# Altium footprint library PcbLib.PcbLib: 51 footprints (part 3 of 4)
Each footprint in its own frame and in the unit in brackets; x right, y up, seen from the top. Pads: shape width x height; smd on the part's side, far side on the other; paste and mask are expansions set on the pad; w line width, h text height; cw(c..) or ccw(c..) is an arc to the next point about the centre after c.
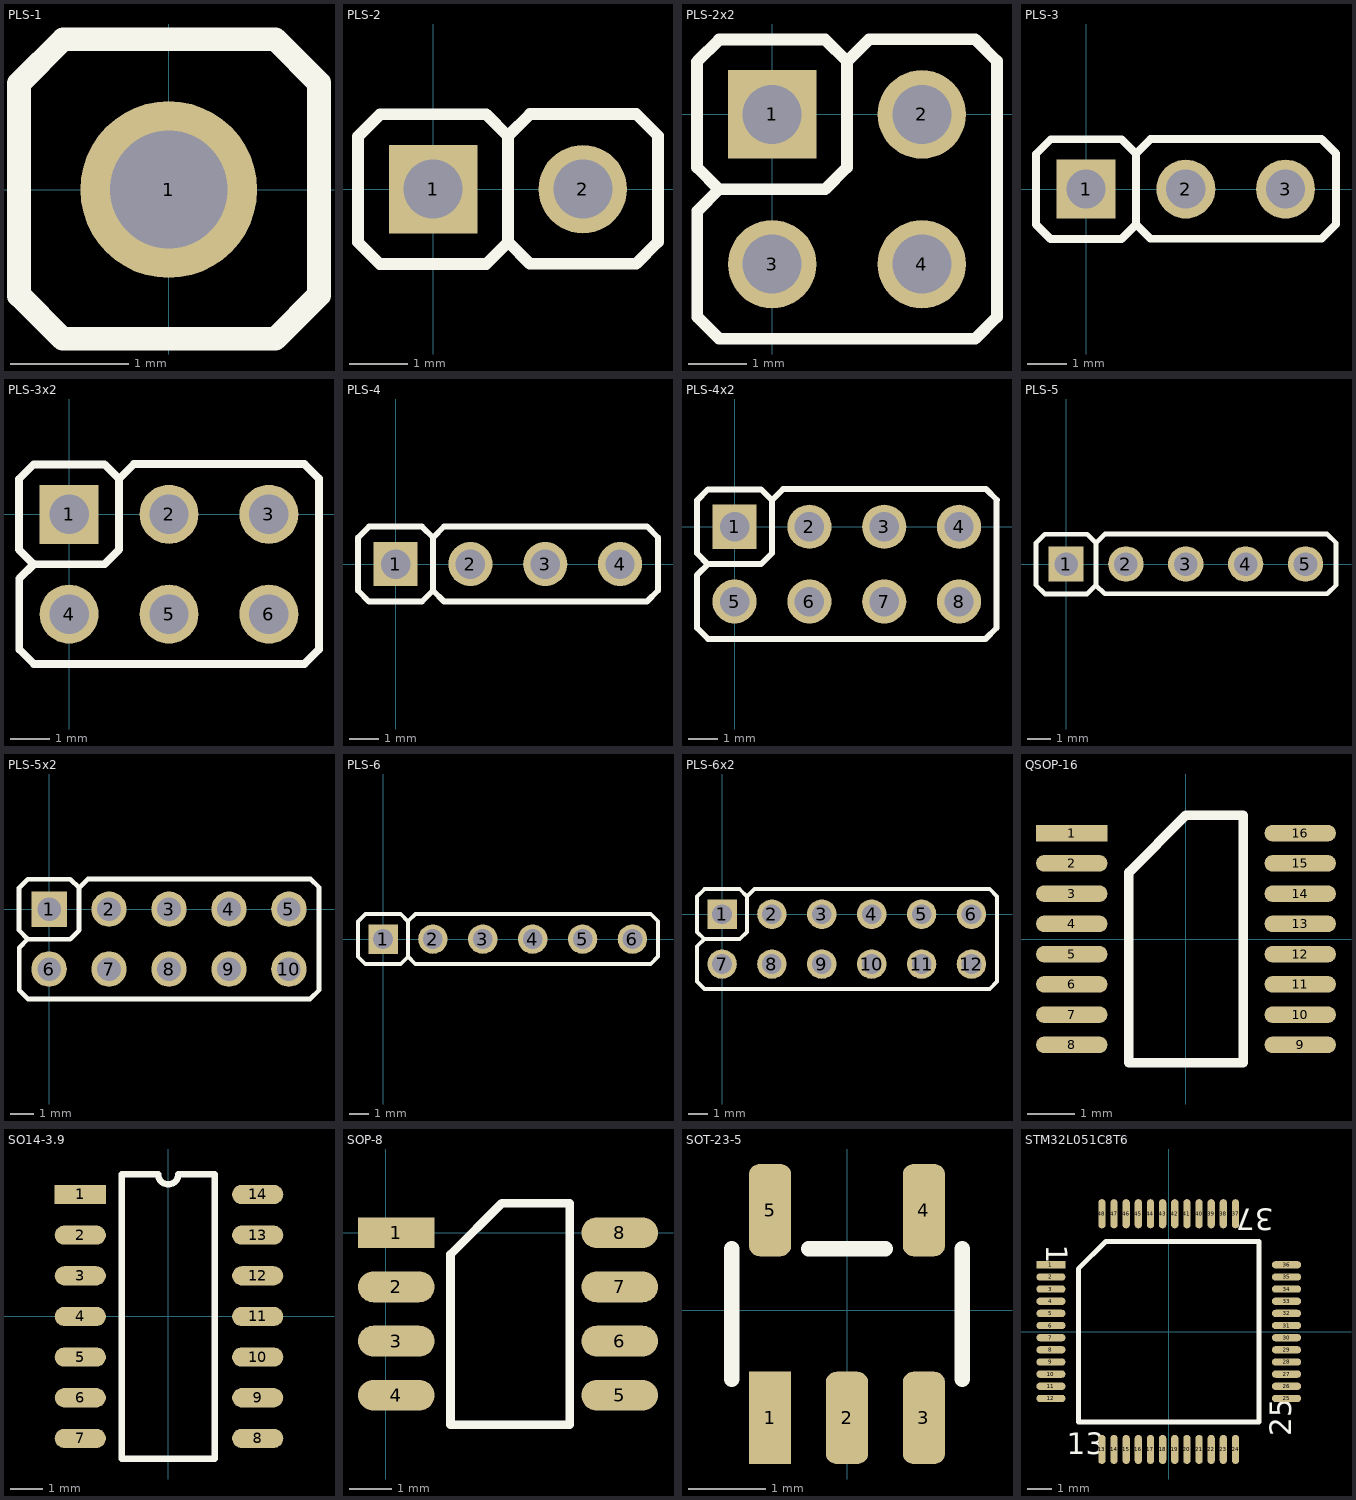
[diagram p2: the footprints below, top view; thin cyan lines are the x and y axes]

## PLS-1 [mm]
pads (1):
  round 1.5 hole 1: 1(0,0)
Top Overlay:
  lines w0.2: -1.27,-0.9 -1.27,0.9 ; -1.27,-0.895 -0.9,-1.265 0.905,-1.265 1.275,-0.895 1.275,0.905 0.905,1.275 -0.895,1.275 -1.265,0.905

## PLS-2 [mm]
pads (2):
  rect 1.5x1.5 hole 1: 1(0,0)
  round 1.5 hole 1: 2(2.54,0)
Top Overlay:
  lines w0.2: -1.275,0.895 -1.275,-0.9 -0.905,-1.27 0.9,-1.27 1.27,-0.9 1.27,0.9 ; -1.27,0.9 -0.9,1.27 0.9,1.27 ; 1.27,-0.895 1.64,-1.265 3.445,-1.265 3.815,-0.895 3.815,0.905 ; 1.275,0.905 1.645,1.275 3.445,1.275 ; 0.9,1.27 1.27,0.9 ; 0.9,1.27 1.27,0.9 ; 3.445,1.275 3.815,0.905 ; 3.445,1.275 3.815,0.905

## PLS-2x2 [mm]
pads (4):
  rect 1.5x1.5 hole 1: 1(0,0)
  round 1.5 hole 1: 2(2.54,0) 3(0,-2.54) 4(2.54,-2.54)
Top Overlay:
  lines w0.2: -1.275,0.895 -1.275,-0.9 -0.905,-1.27 0.9,-1.27 1.27,-0.9 1.27,0.9 ; -1.27,-3.44 -1.27,-1.64 ; -1.27,-3.435 -0.9,-3.805 3.445,-3.805 3.815,-3.435 3.815,0.905 ; -1.27,0.9 -0.9,1.27 0.9,1.27 ; -1.265,-1.635 -0.895,-1.265 ; 1.275,0.905 1.645,1.275 3.445,1.275 ; 0.9,1.27 1.27,0.9 ; 0.9,1.27 1.27,0.9 ; 3.445,1.275 3.815,0.905 ; 3.445,1.275 3.815,0.905

## PLS-3 [mm]
pads (3):
  rect 1.5x1.5 hole 1: 1(0,0)
  round 1.5 hole 1: 2(2.54,0) 3(5.08,0)
Top Overlay:
  lines w0.2: -1.275,0.895 -1.275,-0.9 -0.905,-1.27 0.9,-1.27 1.27,-0.9 1.27,0.9 ; -1.27,0.9 -0.9,1.27 0.9,1.27 ; 1.27,-0.895 1.64,-1.265 5.995,-1.265 6.365,-0.895 6.365,0.905 ; 1.275,0.905 1.645,1.275 5.995,1.275 ; 0.9,1.27 1.27,0.9 ; 0.9,1.27 1.27,0.9 ; 5.995,1.275 6.365,0.905 ; 5.995,1.275 6.365,0.905

## PLS-3x2 [mm]
pads (6):
  rect 1.5x1.5 hole 1: 1(0,0)
  round 1.5 hole 1: 2(2.54,0) 3(5.08,0) 4(0,-2.54) 5(2.54,-2.54) 6(5.08,-2.54)
Top Overlay:
  lines w0.2: -1.275,0.895 -1.275,-0.9 -0.905,-1.27 0.9,-1.27 1.27,-0.9 1.27,0.9 ; -1.27,-3.44 -1.27,-1.64 ; -1.27,-3.435 -0.9,-3.805 5.985,-3.805 6.355,-3.435 6.355,0.905 5.985,1.275 1.645,1.275 1.275,0.905 ; -1.27,0.9 -0.9,1.27 0.9,1.27 ; -1.265,-1.635 -0.895,-1.265 ; 0.9,1.27 1.27,0.9 ; 0.9,1.27 1.27,0.9

## PLS-4 [mm]
pads (4):
  rect 1.5x1.5 hole 1: 1(0,0)
  round 1.5 hole 1: 2(2.54,0) 3(5.08,0) 4(7.62,0)
Top Overlay:
  lines w0.2: -1.275,0.895 -1.275,-0.9 -0.905,-1.27 0.9,-1.27 1.27,-0.9 1.27,0.9 ; -1.27,0.9 -0.9,1.27 0.9,1.27 ; 1.27,-0.895 1.64,-1.265 8.54,-1.265 8.91,-0.895 8.91,0.905 ; 1.275,0.905 1.645,1.275 8.54,1.275 ; 8.905,-0.895 8.905,0.905 ; 0.9,1.27 1.27,0.9 ; 0.9,1.27 1.27,0.9 ; 8.54,1.275 8.91,0.905 ; 8.54,1.275 8.91,0.905

## PLS-4x2 [mm]
pads (8):
  rect 1.5x1.5 hole 1: 1(0,0)
  round 1.5 hole 1: 2(2.54,0) 3(5.08,0) 4(7.62,0) 5(0,-2.54) 6(2.54,-2.54) 7(5.08,-2.54) 8(7.62,-2.54)
Top Overlay:
  lines w0.2: -1.275,0.895 -1.275,-0.9 -0.905,-1.27 0.9,-1.27 1.27,-0.9 1.27,0.9 ; -1.27,-3.44 -1.27,-1.64 ; -1.27,-3.435 -0.9,-3.805 8.525,-3.805 8.895,-3.435 8.895,0.905 ; -1.27,0.9 -0.9,1.27 0.9,1.27 ; -1.265,-1.635 -0.895,-1.265 ; 1.275,0.905 1.645,1.275 8.54,1.275 8.91,0.905 ; 0.9,1.27 1.27,0.9 ; 0.9,1.27 1.27,0.9

## PLS-5 [mm]
pads (5):
  rect 1.5x1.5 hole 1: 1(0,0)
  round 1.5 hole 1: 2(2.54,0) 3(5.08,0) 4(7.62,0) 5(10.16,0)
Top Overlay:
  lines w0.2: -1.275,0.895 -1.275,-0.9 -0.905,-1.27 0.9,-1.27 1.27,-0.9 1.27,0.9 ; -1.27,0.9 -0.9,1.27 0.9,1.27 ; 1.27,-0.895 1.64,-1.265 11.085,-1.265 11.455,-0.895 11.455,0.905 ; 1.275,0.905 1.645,1.275 11.085,1.275 ; 11.45,-0.895 11.45,0.905 ; 0.9,1.27 1.27,0.9 ; 0.9,1.27 1.27,0.9 ; 11.085,1.275 11.455,0.905 ; 11.085,1.275 11.455,0.905

## PLS-5x2 [mm]
pads (10):
  rect 1.5x1.5 hole 1: 1(0,0)
  round 1.5 hole 1: 2(2.54,0) 3(5.08,0) 4(7.62,0) 5(10.16,0) 6(0,-2.54) 7(2.54,-2.54) 8(5.08,-2.54) 9(7.62,-2.54) 10(10.16,-2.54)
Top Overlay:
  lines w0.2: -1.275,0.895 -1.275,-0.9 -0.905,-1.27 0.9,-1.27 1.27,-0.9 1.27,0.9 ; -1.27,-3.44 -1.27,-1.64 ; -1.27,-3.435 -0.9,-3.805 11.065,-3.805 11.435,-3.435 11.435,0.905 11.435,0.925 11.085,1.275 1.645,1.275 1.275,0.905 ; -1.27,0.9 -0.9,1.27 0.9,1.27 ; -1.265,-1.635 -0.895,-1.265 ; 0.9,1.27 1.27,0.9 ; 0.9,1.27 1.27,0.9

## PLS-6 [mm]
pads (6):
  rect 1.5x1.5 hole 1: 1(0,0)
  round 1.5 hole 1: 2(2.54,0) 3(5.08,0) 4(7.62,0) 5(10.16,0) 6(12.7,0)
Top Overlay:
  lines w0.2: -1.275,0.895 -1.275,-0.9 -0.905,-1.27 0.9,-1.27 1.27,-0.9 1.27,0.9 ; -1.27,0.9 -0.9,1.27 0.9,1.27 ; 1.27,-0.895 1.64,-1.265 13.63,-1.265 14,-0.895 14,0.905 ; 1.275,0.905 1.645,1.275 13.63,1.275 ; 0.9,1.27 1.27,0.9 ; 0.9,1.27 1.27,0.9 ; 13.63,1.275 14,0.905 ; 13.63,1.275 14,0.905

## PLS-6x2 [mm]
pads (12):
  rect 1.5x1.5 hole 1: 1(0,0)
  round 1.5 hole 1: 2(2.54,0) 3(5.08,0) 4(7.62,0) 5(10.16,0) 6(12.7,0) 7(0,-2.54) 8(2.54,-2.54) 9(5.08,-2.54) 10(7.62,-2.54) 11(10.16,-2.54) 12(12.7,-2.54)
Top Overlay:
  lines w0.2: -1.275,0.895 -1.275,-0.9 -0.905,-1.27 0.9,-1.27 1.27,-0.9 1.27,0.9 ; -1.27,-3.44 -1.27,-1.64 ; -1.27,-3.435 -0.9,-3.805 13.63,-3.805 14,-3.435 14,0.905 13.63,1.275 1.645,1.275 1.275,0.905 ; -1.27,0.9 -0.9,1.27 0.9,1.27 ; -1.265,-1.635 -0.895,-1.265 ; 0.9,1.27 1.27,0.9 ; 0.9,1.27 1.27,0.9

## QSOP-16 [mm]
pads (16):
  rect 1.5x0.35 smd: 1(-2.4,2.222)
  oval 1.5x0.35 smd: 2(-2.4,1.587) 3(-2.4,0.953) 4(-2.4,0.318) 5(-2.4,-0.318) 6(-2.4,-0.953) 7(-2.4,-1.587) 8(-2.4,-2.222) 9(2.4,-2.222) 10(2.4,-1.587) 11(2.4,-0.953) 12(2.4,-0.318) 13(2.4,0.318) 14(2.4,0.953) 15(2.4,1.587) 16(2.4,2.222)
Top Overlay:
  lines w0.2: -1.2,-2.6 1.2,-2.6 1.2,2.6 0,2.6 -1.2,1.4 -1.2,-2.6
3D body: height 1.7, standoff 0.1, extent -2,-2.5 2,2.5

## SO14-3.9 [mm]
pads (14):
  rect 1.6x0.6 smd: 1(-2.746,3.81)
  oval 1.6x0.6 smd: 2(-2.746,2.54) 3(-2.746,1.27) 4(-2.746,0) 5(-2.746,-1.27) 6(-2.746,-2.54) 7(-2.746,-3.81) 8(2.794,-3.81) 9(2.794,-2.54) 10(2.794,-1.27) 11(2.794,0) 12(2.794,1.27) 13(2.794,2.54) 14(2.794,3.81)
Top Overlay:
  lines w0.2: -1.45,-4.445 1.45,-4.445 1.45,4.445 0.318,4.445 cw(c0,4.445) -0.318,4.445 -1.45,4.445 -1.45,-4.445
3D body "SO14-2.STEP": height 1.76, standoff -0.01, extent -2.993,-4.375 3.144,4.325

## SOP-8 [mm]
pads (8):
  rect 1.8x0.72 smd: 1(0.254,0)
  oval 1.8x0.72 smd: 2(0.254,-1.27) 3(0.254,-2.54) 4(0.254,-3.81) 5(5.492,-3.81) 6(5.492,-2.54) 7(5.492,-1.27) 8(5.492,0)
Top Overlay:
  lines w0.2: 1.524,-4.505 4.318,-4.505 4.318,0.695 2.727,0.695 1.524,-0.508 1.524,-4.505

## SOT-23-5 [mm]
pads (5):
  rect 0.55x1.2 smd: 1(-1,-1.4)
  rrect50% 0.55x1.2 smd: 2(0,-1.4) 3(1,-1.4) 4(1,1.3) 5(-1,1.3)
Top Overlay:
  lines w0.2: -1.5,-0.9 -1.5,0.8 ; -0.5,0.8 0.5,0.8 ; 1.5,-0.9 1.5,0.8

## STM32L051C8T6 [mm]
pads (48):
  rect 1.2x0.3 smd: 1(-4.85,2.75)
  oval 1.2x0.3 smd: 2(-4.85,2.25) 3(-4.85,1.75) 4(-4.85,1.25) 5(-4.85,0.75) 6(-4.85,0.25) 7(-4.85,-0.25) 8(-4.85,-0.75) 9(-4.85,-1.25) 10(-4.85,-1.75) 11(-4.85,-2.25) 12(-4.85,-2.75) 25(4.85,-2.75) 26(4.85,-2.25) 27(4.85,-1.75) 28(4.85,-1.25) 29(4.85,-0.75) 30(4.85,-0.25) 31(4.85,0.25) 32(4.85,0.75) 33(4.85,1.25) 34(4.85,1.75) 35(4.85,2.25) 36(4.85,2.75)
  oval 0.3x1.2 smd: 13(-2.75,-4.85) 14(-2.25,-4.85) 15(-1.75,-4.85) 16(-1.25,-4.85) 17(-0.75,-4.85) 18(-0.25,-4.85) 19(0.25,-4.85) 20(0.75,-4.85) 21(1.25,-4.85) 22(1.75,-4.85) 23(2.25,-4.85) 24(2.75,-4.85) 37(2.75,4.85) 38(2.25,4.85) 39(1.75,4.85) 40(1.25,4.85) 41(0.75,4.85) 42(0.25,4.85) 43(-0.25,4.85) 44(-0.75,4.85) 45(-1.25,4.85) 46(-1.75,4.85) 47(-2.25,4.85) 48(-2.75,4.85)
Top Overlay:
  lines w0.2: -3.715,-3.715 -3.715,2.58 -2.58,3.715 3.715,3.715 3.715,-3.715 -3.715,-3.715
  text "37" at 4.325,5.375 h1.52
  text "25" at 5.35,-4.3 h1.52
  text "13" at -4.2,-5.35 h1.52
  text "1" at -5.35,3.575 h1.52
3D body "STM32F101C6T6A.STEP": height 1.6, standoff 0, extent -4.5,-4.5 4.5,4.5